# Altium schematic symbol library Crystals.SchLib: 1 symbol
Pins are listed as number, name and electrical type; pins without a type are passive.

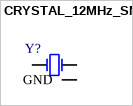
[diagram p0: symbol CRYSTAL_12MHz_SMD]

## CRYSTAL_12MHz_SMD
designator Y?, comment CRYSTAL 12.0000MHZ 18PF SMD  (value not drawn)
12 MHz ±20ppm Crystal 18pF 50 Ohms 4-SMD, No Lead; Made By: Robert Pafford; Frequency: 12 MHz; ESR: 50 Ohmz; Supplier 1: Digi-Key; Supplier Part Number 1: XC3080CT-ND; Load Capacitance: 18pF
footprint 4-SMD No Lead Crystal; pin to pad 2>3 GND>2+4
pins: 1, 2, GND (power)